# Altium schematic symbol library 1 hole.SchLib: 1 symbol
Pins are listed as number, name and electrical type; pins without a type are passive.

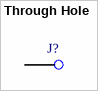
[diagram p0: symbol Through Hole]

## Through Hole
designator J?  (value not drawn)
footprint 1mm
pins: 1